# Altium footprint library MSP430F5528.PcbLib: 1 footprints
Each footprint in its own frame and in the unit in brackets; x right, y up, seen from the top. Pads: shape width x height; smd on the part's side, far side on the other; paste and mask are expansions set on the pad; w line width, h text height; cw(c..) or ccw(c..) is an arc to the next point about the centre after c.
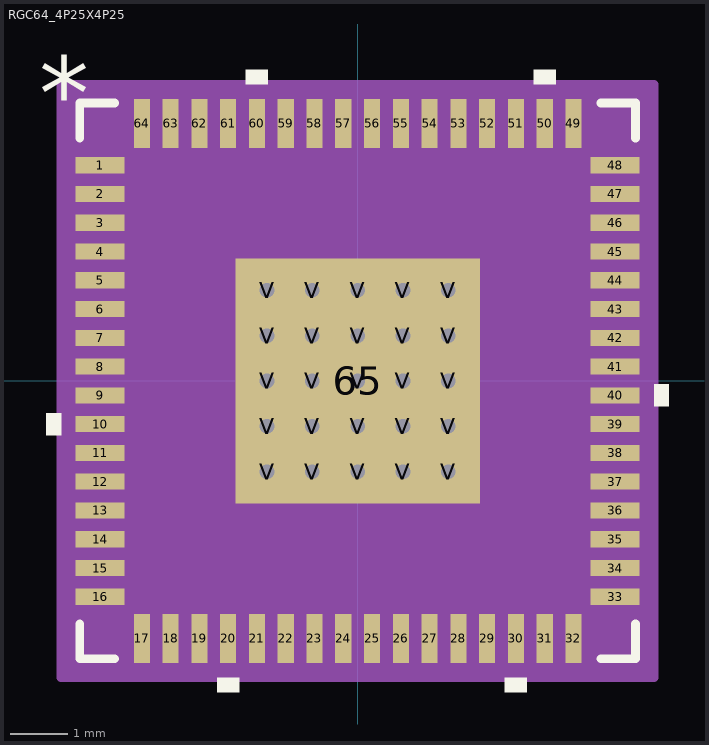
[diagram p0: the footprint, top view; thin cyan lines are the x and y axes]

## RGC64_4P25X4P25 [mm]
pads (90):
  rect 0.85x0.28 smd paste-0.14: 1(-4.475,3.75) 2(-4.475,3.25) 3(-4.475,2.75) 4(-4.475,2.25) 5(-4.475,1.75) 6(-4.475,1.25) 7(-4.475,0.75) 8(-4.475,0.25) 9(-4.475,-0.25) 10(-4.475,-0.75) 11(-4.475,-1.25) 12(-4.475,-1.75) 13(-4.475,-2.25) 14(-4.475,-2.75) 15(-4.475,-3.25) 16(-4.475,-3.75) 33(4.475,-3.75) 34(4.475,-3.25) 35(4.475,-2.75) 36(4.475,-2.25) 37(4.475,-1.75) 38(4.475,-1.25) 39(4.475,-0.75) 40(4.475,-0.25) 41(4.475,0.25) 42(4.475,0.75) 43(4.475,1.25) 44(4.475,1.75) 45(4.475,2.25) 46(4.475,2.75) 47(4.475,3.25) 48(4.475,3.75)
  rect 0.28x0.85 smd paste-0.14: 17(-3.751,-4.475) 18(-3.251,-4.475) 19(-2.751,-4.475) 20(-2.251,-4.475) 21(-1.75,-4.475) 22(-1.25,-4.475) 23(-0.75,-4.475) 24(-0.25,-4.475) 25(0.25,-4.475) 26(0.75,-4.475) 27(1.25,-4.475) 28(1.75,-4.475) 29(2.251,-4.475) 30(2.751,-4.475) 31(3.251,-4.475) 32(3.751,-4.475) 49(3.751,4.475) 50(3.251,4.475) 51(2.751,4.475) 52(2.251,4.475) 53(1.75,4.475) 54(1.25,4.475) 55(0.75,4.475) 56(0.25,4.475) 57(-0.25,4.475) 58(-0.75,4.475) 59(-1.25,4.475) 60(-1.75,4.475) 61(-2.251,4.475) 62(-2.751,4.475) 63(-3.251,4.475) 64(-3.751,4.475)
  rect 4.25x4.25 smd paste-2.112 mask-2.108: 65(0,0)
  round 0.508 / inner round 1.524 / far side round 0.508 hole 0.254: V(-1.575,-1.575) V(-1.575,-0.787) V(-1.575,0) V(-1.575,0.787) V(-1.575,1.575) V(-0.787,-1.575) V(-0.787,-0.787) V(-0.787,0) V(-0.787,0.787) V(-0.787,1.575) V(0,-1.575) V(0,-0.787) V(0,0) V(0,0.787) V(0,1.575) V(0.787,-1.575) V(0.787,-0.787) V(0.787,0) V(0.787,0.787) V(0.787,1.575) V(1.575,-1.575) V(1.575,-0.787) V(1.575,0) V(1.575,0.787) V(1.575,1.575)
Top Overlay:
  region: -1.56,5.154 -1.941,5.154 -1.941,5.408 -1.56,5.408
  region: 3.441,5.154 3.06,5.154 3.06,5.408 3.441,5.408
  region: 5.154,-0.059 5.408,-0.059 5.408,-0.44 5.154,-0.44
  region: 2.941,-5.154 2.56,-5.154 2.56,-5.408 2.941,-5.408
  region: -2.06,-5.154 -2.441,-5.154 -2.441,-5.408 -2.06,-5.408
  region: -5.154,-0.56 -5.408,-0.56 -5.408,-0.941 -5.154,-0.941
  lines w0.152: -4.829,-4.223 -4.829,-4.829 -4.224,-4.829 ; -4.829,4.223 -4.829,4.829 -4.224,4.829 ; 4.224,-4.829 4.829,-4.829 4.829,-4.223 ; 4.224,4.829 4.829,4.829 4.829,4.223
  text "*" at -5.535,4.381 h1.27
Top Paste:
  drawing of 100 lines, arcs and shapes, not listed
Top Solder:
  drawing of 76 lines, arcs and shapes, not listed
Mechanical 13:
  text "*" at -5.535,4.381 h1.27
Mechanical 15:
  region: 5.154,-5.154 -5.154,-5.154 -5.154,5.154 5.154,5.154
  lines w0.152: -5.154,-5.154 5.154,-5.154 5.154,5.154 -5.154,5.154 -5.154,-5.154